# EAGLE library part 2EDN8523F (library 2EDN8523F)
2EDN8523F Advanced Dual Channel 5A Driver With Inverting Input logic, 8V UVLO SOIC127P602X173-8N-V
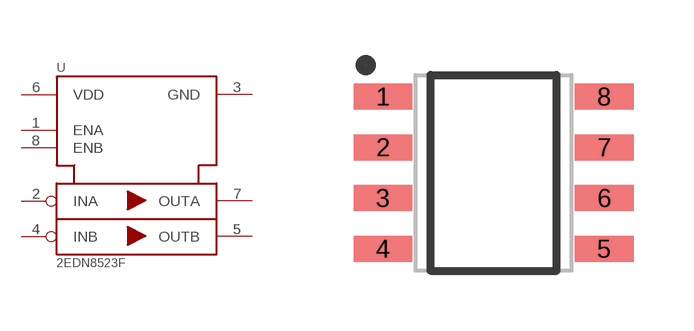
[diagram p0: symbol with the pads of SOIC127P602X173-8N-V; footprint SOIC127P602X173-8N-V]

Designator prefix U

## 2EDN8523F  [SOIC127P602X173-8N-V]
1  ENA  in
2  INA  in
3  GND  pwr
4  INB  in
5  OUTB  out
6  VDD  pwr
7  OUTA  out
8  ENB  in

## Footprint SOIC127P602X173-8N-V (pad centres in mm)
Original name SOIC127P602X173-8N-V Max Component Height - 1.73mm
smd 1.47 x 0.65: 1 -2.765,1.905; 2 -2.765,0.635; 3 -2.765,-0.635; 4 -2.765,-1.905; 5 2.765,-1.905; 6 2.765,-0.635; 7 2.765,0.635; 8 2.765,1.905